# EAGLE library part ROTARY_SWITCH (library library)
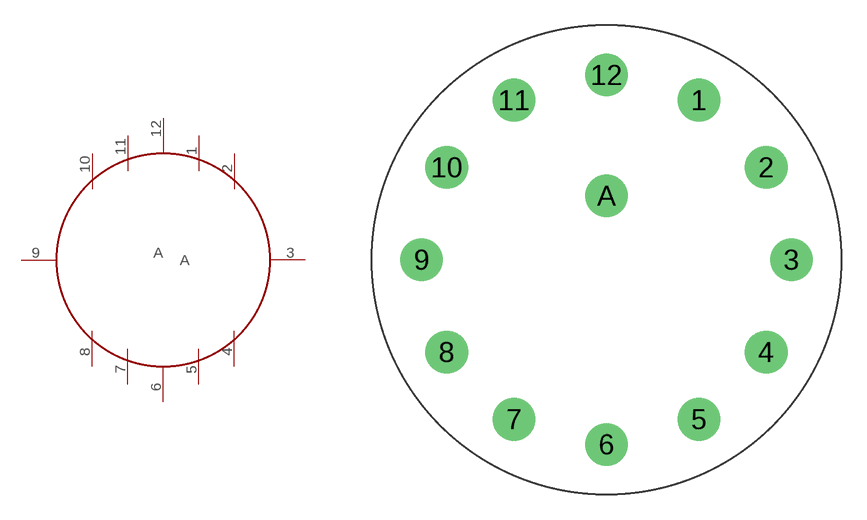
[diagram p13: symbol with the pads of ROTARY_SWITCH; footprint ROTARY_SWITCH]

Designator prefix -

## ROTARY_SWITCH  [ROTARY_SWITCH]
1  1
2  2
3  3
4  4
5  5
6  6
7  7
8  8
9  9
10  10
11  11
12  12
A  A

## Footprint ROTARY_SWITCH (pad centres in mm)
drill 1.016 pad 2.54: 1 5.5,9.5; 2 9.5,5.5; 3 11,0; 4 9.5,-5.5; 5 5.5,-9.5; 6 0,-11; 7 -5.5,-9.5; 8 -9.5,-5.5; 9 -11,0; 10 -9.5,5.5; 11 -5.5,9.5; 12 0,11; A 0,3.81